# EAGLE library part USB+SHIELD (library SparkFun-Retired)
USB+Shield USB connector with shield pins connectable
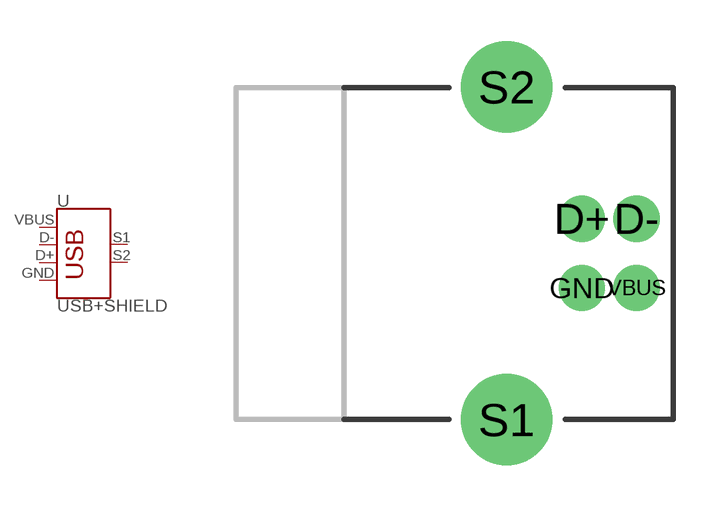
[diagram p116: symbol with the pads of USB-B-PTH; footprint USB-B-PTH]

Designator prefix -

## USB+SHIELD  [USB-B-PTH]
D+  D+
D-  D-
GND  GND  pwr
S1  S1
S2  S2
VBUS  VBUS  pwr

## Footprint USB-B-PTH (pad centres in mm)
USB Type B PTH Mounted Specifications: Pin count:4 main, 2 shield Datasheet referenced for footprint: Example device(s): USB_B
drill 0.914 pad 1.676: D+ 0,1.25; D- 1.981,1.25; GND 0,-1.25; VBUS 1.981,-1.25
drill 2.286: S1 -2.718,-6.02; S2 -2.718,6.02